# Altium schematic symbol library transistors_mos.SchLib: 44 symbols
Pins are listed as number, name and electrical type; pins without a type are passive.

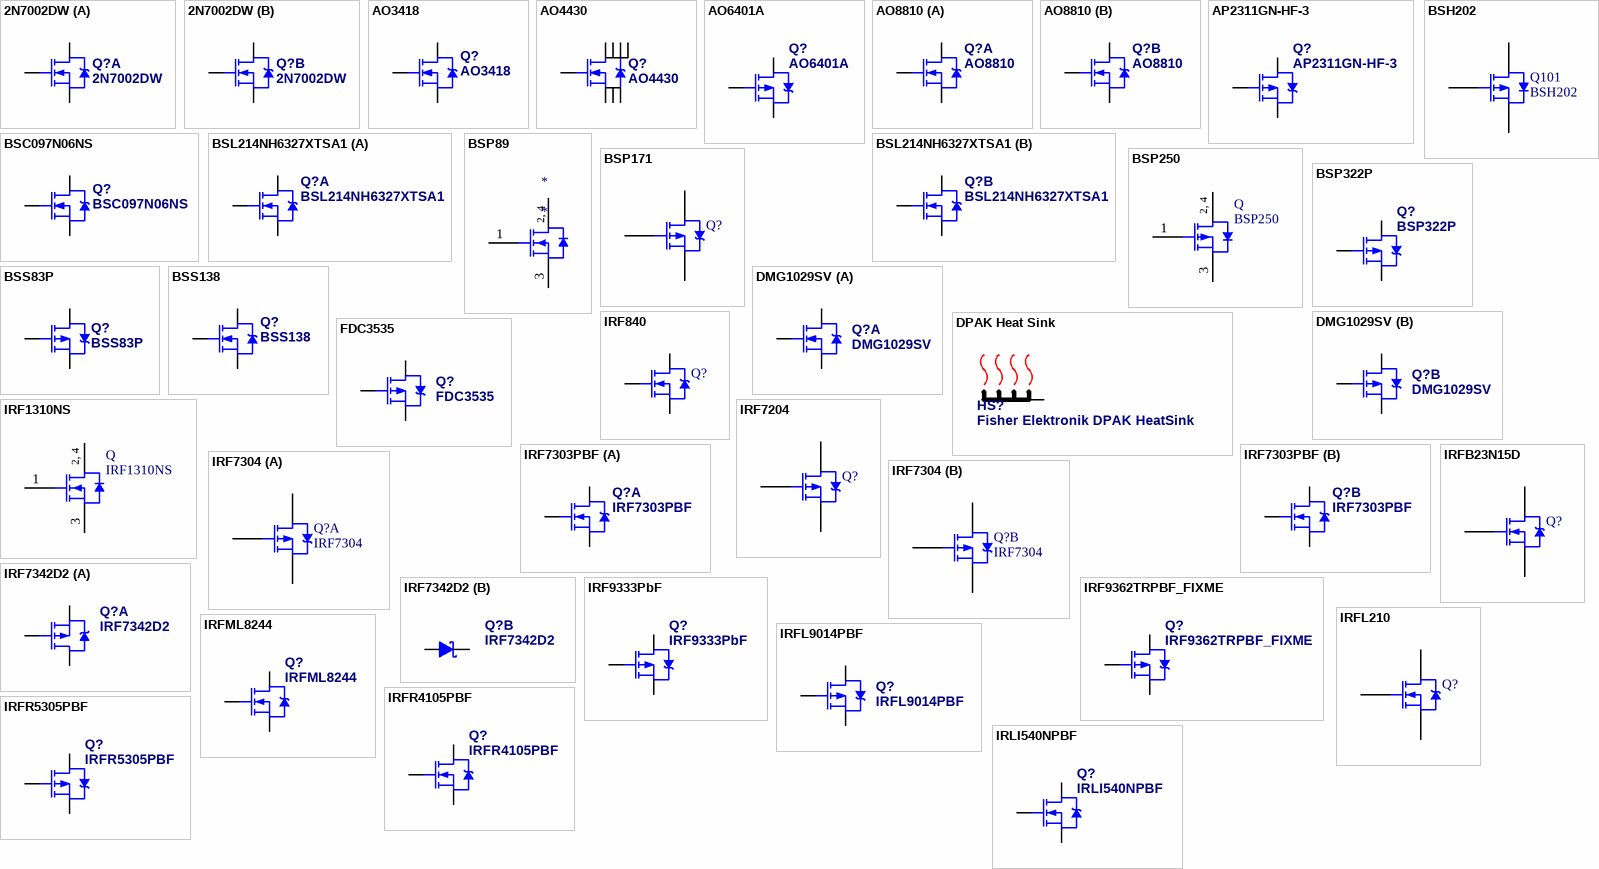
[diagram p0: symbols 2N7002DW to IRLI540NPBF]

## 2N7002DW
designator Q?
N-Channel x2, 60V, 0.23A - ENHANCEMENT MODE MOSFET
footprint SOT-323-6 (SOT-363, SC88, SC70-6) (SOT-363; 6 Leads; Body 2.2 x 2.2 mm, inc. leads (LxW max))
part A pins: 1 S1, 2 G1, 6 D1
part B pins: 3 D1, 4 S1, 5 G1

## AO3418
designator Q?
N-Channel Enhancement Mode Vertical DMOS FET; Published: 17-Dec-2003; DatasheetVersion: Mar-96; PackageVersion: 1996; PackageReference: SOT23; Publisher: Altium Limited; PackageDescription: SOT-23; 3 Leads; Body 3.1 x 2.5 mm, inc. leads (LxW max), Alternate Lead Configuration; ComponentLink1Description: Manufacturer Link; ComponentLink1URL: http://www.zetex.com/; ComponentLink2Description: Datasheet; ComponentLink2URL: www.zetex.com/3.0/pdf/BSS138.pdf
footprint SOT-23
footprint SOT-23W
pins: 1 G, 2 S, 3 D

## AO4430
designator Q?
30V N-Channel MOSFET; Published: 17-Dec-2003; DatasheetVersion: Mar-96; PackageVersion: 1996; PackageReference: SOT23; Publisher: Altium Limited; PackageDescription: SOT-23; 3 Leads; Body 3.1 x 2.5 mm, inc. leads (LxW max), Alternate Lead Configuration; ComponentLink1Description: Manufacturer Link; ComponentLink1URL: http://www.zetex.com/; ComponentLink2Description: Datasheet; ComponentLink2URL: www.zetex.com/3.0/pdf/BSS138.pdf
footprint SO8 (Small Outline; 8 Leads; Body Width 3.7 mm; Pitch 1.27 mm)
pins: 1 "SOURCE", 2 "SOURCE", 3 "SOURCE", 4 "GATE", 5 "DRAIN", 6 "DRAIN", 7 "DRAIN", 8 "DRAIN"

## AO6401A
designator Q?
P-Channel MOSFET; -60V, -5A, 1.3W;; Supplier 1: TME; Supplier Part Number 1: AO6401A
footprint SOT-23-6 (SOT23-6, AKA: SOT-26 (Diodes), SuperSOT-6 (Fairchild), SOT753 (NXP), TSOP5 (NXP))
pins: 1 D, 2 D, 3 G, 4 S, 5 D, 6 D

## AO8810
designator Q?
Dual Common Drain N-Channel MOSFET: Vds=20V, Rdson<20mR@4,5V, Id=7A; Published: 20-Mar-2006; Package Reference: TSOP6 (SOT23-6); Supplier 1: TME; Supplier Part Number 1: AO8810
footprint TSSOP8 (JEDEC MO-153 AA (TSSOP-8))
part A pins: 1 D1/D2, 2 S1, 3 S1, 4 G1, 8 D1/D3
part B pins: 1 D1/D2, 5 G2, 6 S2, 7 S2, 8 D1/D3

## AP2311GN-HF-3
designator Q?
P-Channel Enhance-mode Power MOSFET; -60V, -1.8A, 1.38mW;
footprint SOT-23
pins: 1 G, 2 S, 3 D

## BSC097N06NS
designator Q?
OptiMOS Power-Transistor; Published: 17-Dec-2003; DatasheetVersion: Mar-96; PackageVersion: 1996; PackageReference: SOT23; Publisher: Altium Limited; PackageDescription: SOT-23; 3 Leads; Body 3.1 x 2.5 mm, inc. leads (LxW max), Alternate Lead Configuration; ComponentLink1Description: Manufacturer Link; ComponentLink1URL: http://www.zetex.com/; ComponentLink2Description: Datasheet; ComponentLink2URL: www.zetex.com/3.0/pdf/BSS138.pdf
footprint INF-PG-TDSON-8-1_V (TDSON, 8-Leads, Body 6.15x5.15mm, Pitch 1.27mm)
pins: D, G, S

## BSH202
designator Q101
P-channel Enhancement Mode MOSFET; Package Information: Latest Revision: May-1999; Published: 17-Sep-2003; Datasheet: Latest Revision: Aug-1998; Package Reference: SOT23; Publisher: Altium Limited
footprint SOT-23
pins: 1 G, 2 S, 3 D

## BSL214NH6327XTSA1
designator Q?
Dual N-Channel OptiMOS™2 Small-Signal-Transistors: Vds=20V, Rdson=140mR@4,5V - 250mR@2,5V, Id=1,5A; Published: 20-Mar-2006; Package Reference: TSOP6 (SOT23-6); Supplier 1: TME; Supplier Part Number 1: BSL214NH6327XTSA1
footprint SOT-23-6 (SOT23-6, AKA: SOT-26 (Diodes), SuperSOT-6 (Fairchild), SOT753 (NXP), TSOP5 (NXP))
part A pins: 1 G1, 5 S1, 6 D1
part B pins: 2 S2, 3 G2, 4 D2

## BSP89
designator *
NMOS
footprint sot-223
pins: 1 G, 2 D, 3 S, 4 D
text: 2, 4

## BSP171
designator Q?
SIPMOS P-Channel Small-Signal Transistor; Published: 27-Jun-2006; Package Reference: sot-223
footprint SOT-223
pins: 1 G, 2 D, 3 S

## BSP250
designator Q
P-channel Enhancement Mode Vertical D-MOSFET; Package Information: Latest Revision: Aug-2001; Published: 17-Sep-2003; Datasheet: Latest Revision: 20-Jun-1997; Package Reference: SOT223; Publisher: Altium Limited
footprint SOT-223
pins: 1 G, 2 D, 3 S, 4 D
text: 2, 4

## BSP322P
designator Q?
P-Channel; -100V, -1A, 1,8W; SIPMOS Small-Signal-Transistor; Supplier 1: TME; Supplier Part Number 1: BSP322PH6327XTSA1; Supplier 2: Farnell; Supplier Part Number 2: 2212907
footprint SOT-223
pins: 1 G, 2 D, 3 S, 4 D

## BSS83P
designator Q?
P-Channel; -60V; -0,33A; 360mW; Published: 12-Jul-2006; Package Reference: sot-23
footprint SOT-23
pins: 1 G, 2 S, 3 D

## BSS138
designator Q?
N-Channel Enhancement Mode Vertical DMOS FET; Published: 17-Dec-2003; DatasheetVersion: Mar-96; PackageVersion: 1996; PackageReference: SOT23; Publisher: Altium Limited; PackageDescription: SOT-23; 3 Leads; Body 3.1 x 2.5 mm, inc. leads (LxW max), Alternate Lead Configuration; ComponentLink1Description: Manufacturer Link; ComponentLink1URL: http://www.zetex.com/; ComponentLink2Description: Datasheet; ComponentLink2URL: www.zetex.com/3.0/pdf/BSS138.pdf
footprint SOT-23
footprint SOT-23W
pins: 1 G, 2 S, 3 D

## DMG1029SV
designator Q?
COMPLEMENTARY PAIR ENHANCEMENT MODE MOSFET
footprint SOT563
part A pins: 1 S, 2 G, 6 D
part B pins: 3 D, 4 S, 5 G

## DPAK Heat Sink
designator HS?, comment Fisher Elektronik DPAK HeatSink
footprint FK24408DPAK (Fisher Elektronik FK 244 08 D PAK Heat Sink)
footprint FK24413DPAK (Fisher Elektronik FK 244 13 D PAK Heat Sink)
footprint FK25110LFPAK
pins: 0

## FDC3535
designator Q?
P-Channel; -80V; -2,1A; 1,6W; Supplier 1: Farnell; Supplier Part Number 1: 2322579; Supplier 2: Farnell; Supplier Part Number 2: 2459561
footprint SOT-23-6 (SOT23-6, AKA: SOT-26 (Diodes), SuperSOT-6 (Fairchild), SOT753 (NXP), TSOP5 (NXP))
pins: 1 D, 2 D, 3 G, 4 S, 5 D, 6 D

## IRF840
designator Q?
N-Channel Power MOSFET; Published: 22-Jan-2007; Package Reference: TO-220
footprint TO-220AB_RA
footprint TO-220AB_RA_H1
footprint TO-220AB_RA_H2
footprint TO-220AB_RA_H3
footprint TO-220AB_RA_H4
pins: 1 G, 2 D, 3 S

## IRF1310NS
designator Q
P-channel Enhancement Mode Vertical D-MOSFET; Package Information: Latest Revision: Aug-2001; Published: 17-Sep-2003; Datasheet: Latest Revision: 20-Jun-1997; Package Reference: SOT223; Publisher: Altium Limited
footprint D2PAK
pins: 1 G, 2 D, 3 S
text: 2, 4

## IRF7204
designator Q?
HEXFET P-Channel Power MOSFET; Published: 28-Jun-2006; Package Reference: so-8
footprint SO8 (Small Outline; 8 Leads; Body Width 3.7 mm; Pitch 1.27 mm)
pins: 1 S, 2 S, 3 S, 4 G, 5 D, 6 D, 7 D, 8 D

## IRF7303PBF
designator Q?
Dual N-Channe HEXFET Power MOSFETs; Published: 20-Mar-2006; Package Reference: SO8
footprint SO8 (Small Outline; 8 Leads; Body Width 3.7 mm; Pitch 1.27 mm)
part A pins: 1 S1, 2 G1, 7 D1a, 8 D1b
part B pins: 3 S2, 4 G2, 5 D2a, 6 D2b

## IRF7304
designator Q?
HEXFET Power MOSFET; Published: 20-Mar-2006; Package Reference: SO8
footprint SO8 (Small Outline; 8 Leads; Body Width 3.7 mm; Pitch 1.27 mm)
part A pins: 1 S, 2 G, 7 D, 8 D
part B pins: 3 S, 4 G, 5 D, 6 D

## IRF7342D2
designator Q?
HEXFET Power MOSFET + Schottky diode (Farnell 1463249); Published: 20-Mar-2006; Package Reference: SO8
footprint IRF7342D2 (Small Outline; 8 Leads; Body Width 3.7 mm; Pitch 1.27 mm)
part A pins: D, G, S
part B pins: A, K

## IRF9333PbF
designator Q?
P-Channel; -30V, -9.2A, 2.5W; HEXFET Power MOS-FET
footprint SO8 (Small Outline; 8 Leads; Body Width 3.7 mm; Pitch 1.27 mm)
pins: 1 S, 2 S, 3 S, 4 G, 5 D, 6 D, 7 D, 8 D

## IRF9362TRPBF_FIXME
designator Q?
P-Channel; -30V, -8A, 2W; HEXFET Power MOS-FET
footprint SO8 (Small Outline; 8 Leads; Body Width 3.7 mm; Pitch 1.27 mm)
pins: 2 S, 3 D, 4 G

## IRFB23N15D
designator Q?
N-Channel HEXFET Power MOSFET; Published: 22-Jan-2007; Package Reference: TO-220
footprint TO220
pins: 1 G, 2 D, 3 S

## IRFL210
designator Q?
N-Channel HEXFET Power MOSFET; Published: 18-Dec-2006; Package Reference: sot-223
footprint SOT-223
pins: 1 G, 2 D, 3 S

## IRFL9014PBF
designator Q?
P-Channele; Vds=-60V, Vgs=20V, Id=1,8A; Supplier 1: Farnell; Supplier 2: Farnell; Supplier 3: TME; Supplier Part Number 1: 8649200; Supplier Part Number 2: 2101417; Supplier Part Number 3: IRFL9014PBF
footprint SOT-223
pins: 1 G, 2 D, 3 S, 4 D

## IRFML8244
designator Q?
N-Channel; 25V, 5.8A, 1,25W; HEXFET Power MOS-FET; Supplier 1: TME; Supplier 2: Farnell; Supplier 3: Farnell; Supplier Part Number 1: IRFML8244TRPBF; Supplier Part Number 2: 1857298RL; Supplier Part Number 3: 1857298
footprint SOT-23
footprint SOT-23W
pins: 1 G, 2 S, 3 D

## IRFR4105PBF
designator Q?
N-Channel; VDSS=55V, ID=27A, RDSon=0,045R
footprint TO-252-2 (DPAK-2)
pins: 1 G, 3 S, 4 D

## IRFR5305PBF
designator Q?
P-Channel MOSFET: ID=-31A, VDSS=-55V, RDSon=0,065R, Qg=63nC; Published: 8-Jun-2000; LatestRevisionDate: 17-Jul-2002; LatestRevisionNote: Re-released for DXP Platform.; PackageVersion: 1995/1996; PackageReference: E3; Publisher: Altium Limited; PackageDescription: TO, Flat Index; 3 In-Line, Axial Leads; Body Dia. 4.6mm; Lead Dia. 0.5 mm (max); Supplier: TME; Supplier_nr: SI4435DDY
footprint TO-252-2 (DPAK-2)
pins: 1 G, 3 S, 4 D

## IRLI540NPBF
designator Q?
N-Channel; 100V, 23A, 0,044R, 54W; HEXFET Power MOS-FET
footprint TO-220AB
footprint TO-220AB_H1
footprint TO-220AB_H2
footprint TO-220AB_H3
footprint TO-220AB_H4
footprint TO-220AB_RA
footprint TO-220AB_RA_H1
footprint TO-220AB_RA_H2
footprint TO-220AB_RA_H3
footprint TO-220AB_RA_H4
pins: 1 G, 2 D, 3 S

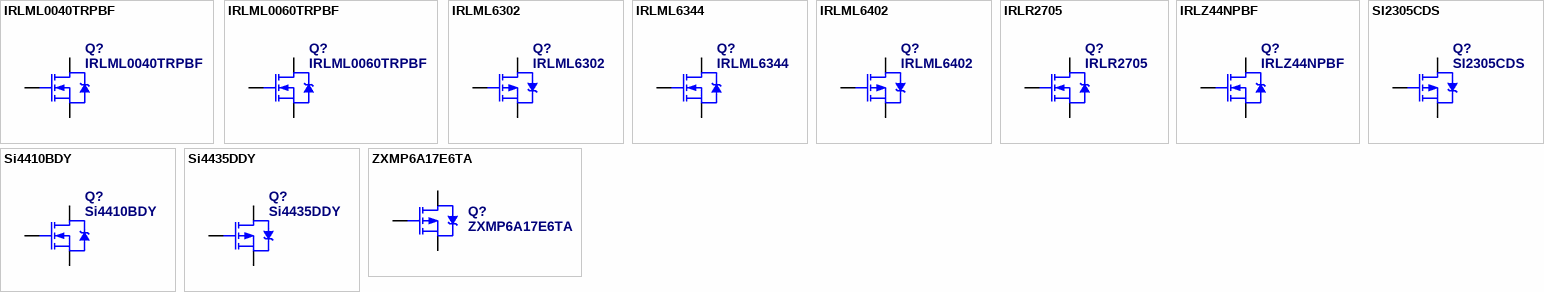
[diagram p1: symbols IRLML0040TRPBF to ZXMP6A17E6TA]

## IRLML0040TRPBF
designator Q?
N-Channel; 40V, 3.6A, 1,25W; HEXFET Power MOS-FET; Supplier 1: Farnell; Supplier 2: TME; Supplier 3: Farnell; Supplier 4: Farnell; Supplier Part Number 1: 1831088RL; Supplier Part Number 2: IRLML0040TRPBF; Supplier Part Number 3: 1829136; Supplier Part Number 4: 1831088
footprint SOT-23
pins: 1 G, 2 S, 3 D

## IRLML0060TRPBF
designator Q?
N-Channel; 60V, 2.7A, 1,25W; HEXFET Power MOS-FET
footprint SOT-23
pins: 1 G, 2 S, 3 D

## IRLML6302
designator Q?
P-Channel; -20V, -620mA, 540mW; HEXFET Power MOS-FET
footprint SOT-23
pins: 1 G, 2 S, 3 D

## IRLML6344
designator Q?
N-Channel; 30V, 5A, 1,3W; HEXFET Power MOS-FET
footprint SOT-23
pins: 1 G, 2 S, 3 D

## IRLML6402
designator Q?
P-Channel; -20V, -3.7A, 1.3W; HEXFET Power MOS-FET
footprint SOT-23
pins: 1 G, 2 S, 3 D

## IRLR2705
designator Q?
N-Channel; VDSS=55V, ID=28A, RDSon=0,040R
footprint TO-252-2 (DPAK-2)
pins: 1 G, 3 S, 4 D

## IRLZ44NPBF
designator Q?
N-Channel; 55V, 47A, 0.022R, 54W; HEXFET Power MOSFET
footprint TO-220AB
footprint TO-220AB_H1
footprint TO-220AB_H2
footprint TO-220AB_H3
footprint TO-220AB_H4
footprint TO-220AB_RA
footprint TO-220AB_RA_H1
footprint TO-220AB_RA_H2
footprint TO-220AB_RA_H3
footprint TO-220AB_RA_H4
pins: 1 G, 2 D, 3 S

## SI2305CDS
designator Q?
P-Channel Enhance-mode Power MOSFET; -60V, -1.8A, 1.38mW;; Supplier 1: TME; Supplier 2: Farnell; Supplier Part Number 1: SI2305CDS; Supplier Part Number 2: 1779258
footprint SOT-23
pins: 1 G, 2 S, 3 D

## Si4410BDY
designator Q?
N-Channel MOSFET. 8A @ Vgs=4.5V, 30V VDS; Published: 8-Jun-2000; LatestRevisionDate: 17-Jul-2002; LatestRevisionNote: Re-released for DXP Platform.; PackageVersion: 1995/1996; PackageReference: E3; Publisher: Altium Limited; PackageDescription: TO, Flat Index; 3 In-Line, Axial Leads; Body Dia. 4.6mm; Lead Dia. 0.5 mm (max); Supplier: TME; Supplier_nr: SI4800BDY-E3
footprint Si4410BDY (Small Outline; 8 Leads; Body Width 3.7 mm; Pitch 1.27 mm)
pins: D, G, S

## Si4435DDY
designator Q?
P-Channel MOSFET. -9.4A, @ Vgs=-4.5,  -30V VDS, Qg=15nC; Published: 8-Jun-2000; LatestRevisionDate: 17-Jul-2002; LatestRevisionNote: Re-released for DXP Platform.; PackageVersion: 1995/1996; PackageReference: E3; Publisher: Altium Limited; PackageDescription: TO, Flat Index; 3 In-Line, Axial Leads; Body Dia. 4.6mm; Lead Dia. 0.5 mm (max); Supplier: TME; Supplier_nr: SI4435DDY
footprint Si4435DDY (Small Outline; 8 Leads; Body Width 3.7 mm; Pitch 1.27 mm)
pins: D, G, S

## ZXMP6A17E6TA
designator Q?
P-Channel; -60V; -3A; 1,1W; Supplier 1: Farnell; Supplier 2: Farnell; Supplier Part Number 1: 1843775RL; Supplier Part Number 2: 1843775
footprint SOT-23-6 (SOT23-6, AKA: SOT-26 (Diodes), SuperSOT-6 (Fairchild), SOT753 (NXP), TSOP5 (NXP))
pins: 1 D, 2 D, 3 G, 4 S, 5 D, 6 D